# Altium schematic symbol library 1K1 Resistor 5_ 0805.SchLib: 1 symbol
Pins are listed as number, name and electrical type; pins without a type are passive.

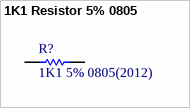
[diagram p0: symbol 1K1 Resistor 5% 0805]

## 1K1 Resistor 5% 0805
designator R?, comment 1K1 5% 0805(2012)
1K1 0.125W 5% 0805 (2012 Metric)  SMD; Case-Metric: 2012; Value: 1100.00 Ohm; Case-EIA: 0805; Technology: SMT; Power: 0.125 W; Tolerance: 5 %
footprint RESC0805(2012)_N (Chip Resistor, Body 2.0x1.3mm, IPC Medium Density)
footprint RESC0805(2012)_L (Chip Resistor, Body 2.0x1.3mm, IPC High Density)
footprint RESC0805(2012)_M (Chip Resistor, Body 2.0x1.3mm, IPC Low Density)
pins: 1, 2
1 alternate drawing of the same symbol